# Altium footprint library 封装库.PcbLib: 324 footprints (part 1 of 21)
Each footprint in its own frame and in the unit in brackets; x right, y up, seen from the top. Pads: shape width x height; smd on the part's side, far side on the other; paste and mask are expansions set on the pad; w line width, h text height; cw(c..) or ccw(c..) is an arc to the next point about the centre after c.
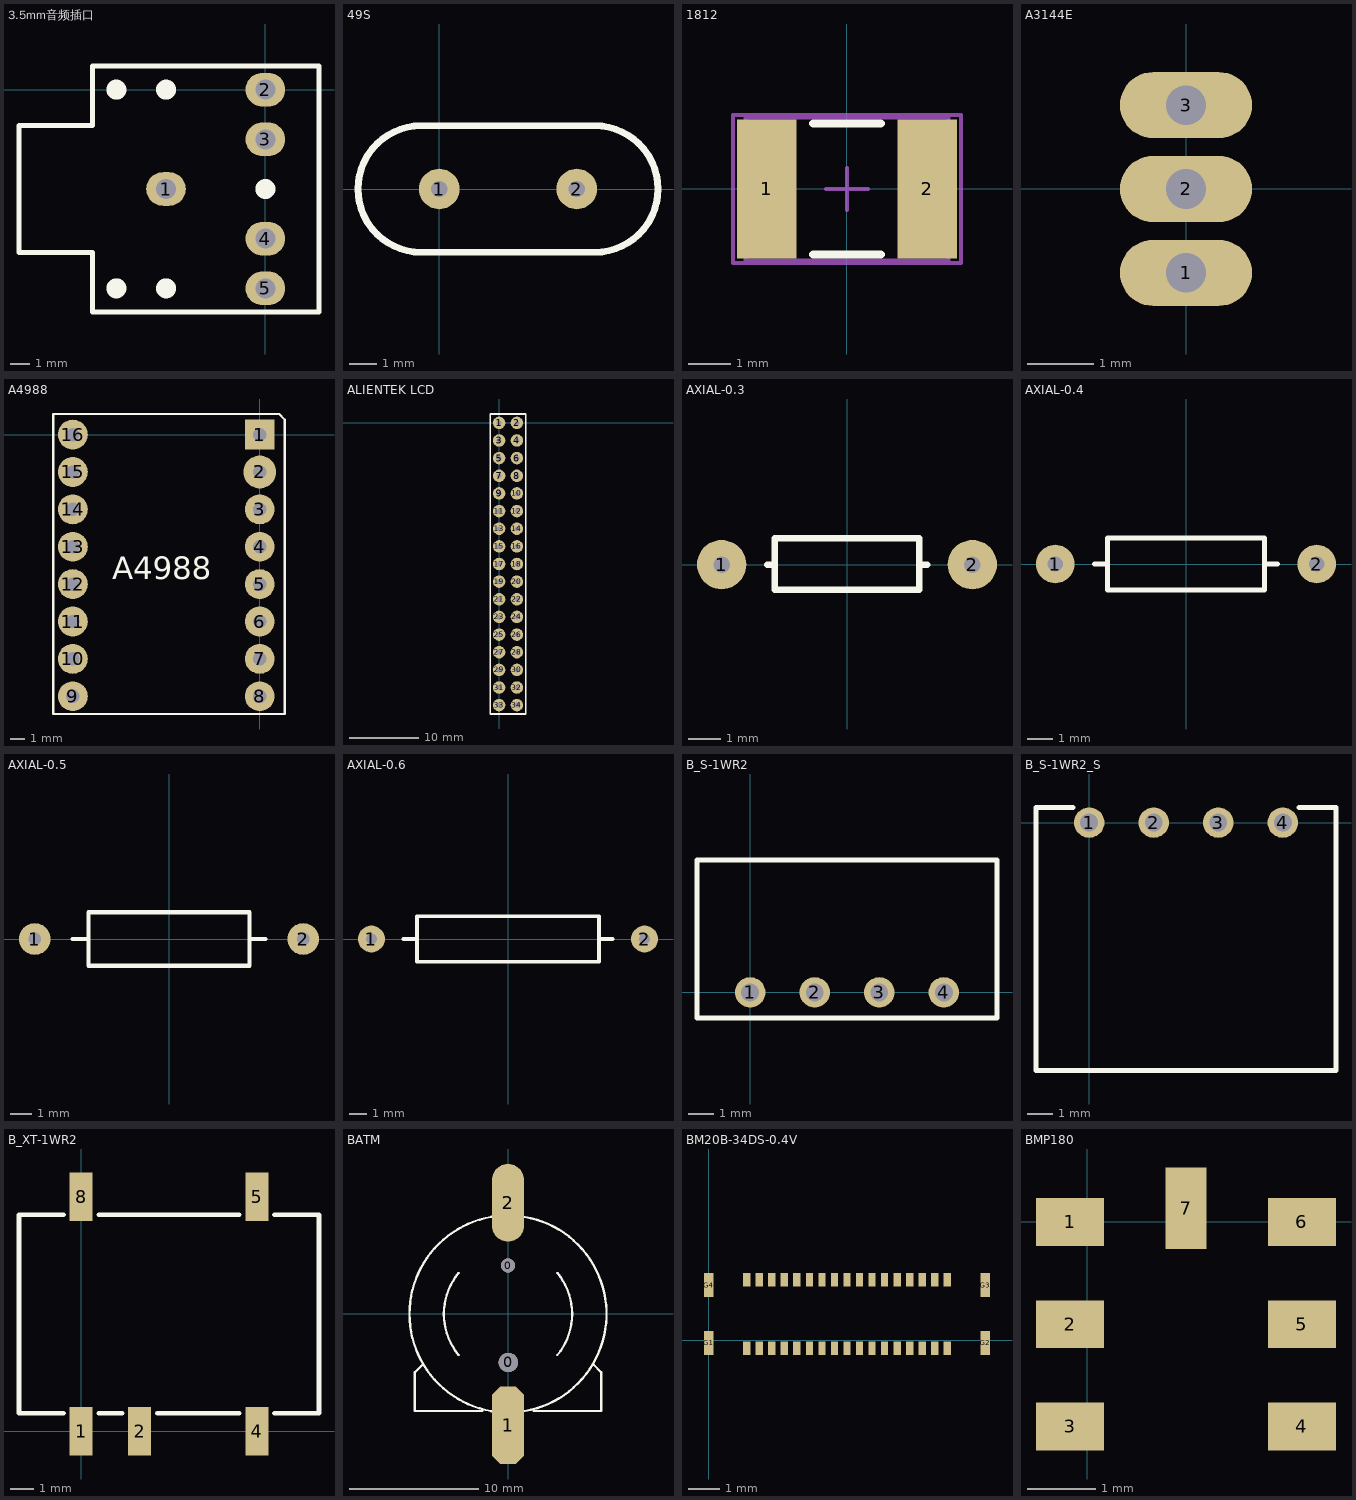
[diagram p0: the footprints below, top view; thin cyan lines are the x and y axes]

## 3.5mm音频插口 [mm]
pads (5):
  oval 2x1.7 hole 1: 1(-5,-5) 2(0,0) 3(0,-2.5) 4(0,-7.5) 5(0,-10)
Top Overlay:
  circle w0.8: c-5,-10 r0.1
  circle w0.8: c-7.5,-10 r0.1
  circle w0.8: c0,-5 r0.1
  circle w0.8: c-5,0 r0.1
  circle w0.8: c-7.5,0 r0.1
  lines w0.254: -12.4,-8.2 -8.7,-8.2 -8.7,-11.2 2.7,-11.2 2.7,1.2 -8.7,1.2 -8.7,-1.8 -12.4,-1.8 -12.4,-8.2

## 49S [mm]
pads (2):
  round 1.5 hole 0.6: 1(0,0) 2(5.08,0)
Top Overlay:
  lines w0.254: -0.663,-2.337 cw(c-0.663,0) -0.663,2.337 5.743,2.337 cw(c5.743,0) 5.743,-2.337 -0.663,-2.337

## 1812 [mm] "Chip Capacitor, Body 4.5x3.2mm, IPC High Density"
height 1.4
pads (2):
  rect 1.4x3.3 smd: 1(-1.9,0) 2(1.9,0)
Top Overlay:
  lines w0.2: -0.8,-1.55 0.8,-1.55 ; -0.8,1.55 0.8,1.55
Mechanical 13:
  lines w0.1: -2.4,-1.7 2.4,-1.7 2.4,1.7 -2.4,1.7 -2.4,-1.7
Mechanical 15:
  lines w0.1: -0.5,0 0.5,0 ; 0,-0.5 0,0.5 ; -2.7,-1.75 2.7,-1.75 2.7,1.75 -2.7,1.75 -2.7,-1.75
3D body: height 1.4, standoff 0, extent -2.4,-1.7 2.4,1.7

## A3144E [mm]
pads (3):
  oval 2x1 hole 0.6: 1(0,-1.27) 2(0,0) 3(0,1.27)

## A4988 [mm]
pads (16):
  rect 2x2 hole 0.9: 1(0,0)
  round 2.2 hole 0.9: 2(0,-2.5)
  round 2 hole 0.9: 3(0,-5) 4(0,-7.5) 5(0,-10) 6(0,-12.5) 7(0,-15) 8(0,-17.5) 9(-12.5,-17.5) 10(-12.5,-15) 11(-12.5,-12.5) 12(-12.5,-10) 13(-12.5,-7.5) 14(-12.5,-5) 15(-12.5,-2.5) 16(-12.5,0)
Top Overlay:
  lines w0.15: -13.814,-18.687 -13.814,1.379 1.299,1.379 1.68,0.998 1.68,-18.687 -13.433,-18.687 -13.814,-18.687
  text "A4988" at -9.877,-9.67 h1.52

## ALIENTEK LCD [mm]
pads (34):
  round 1.8 hole 0.7: 1(0,0) 2(2.54,0) 3(0,-2.54) 4(2.54,-2.54) 5(0,-5.08) 6(2.54,-5.08) 7(0,-7.62) 8(2.54,-7.62) 9(0,-10.16) 10(2.54,-10.16) 11(0,-12.7) 12(2.54,-12.7) 13(0,-15.24) 14(2.54,-15.24) 15(0,-17.78) 16(2.54,-17.78) 17(0,-20.32) 18(2.54,-20.32) 19(0,-22.86) 20(2.54,-22.86) 21(0,-25.4) 22(2.54,-25.4) 23(0,-27.94) 24(2.54,-27.94) 25(0,-30.48) 26(2.54,-30.48) 27(0,-33.02) 28(2.54,-33.02) 29(0,-35.56) 30(2.54,-35.56) 31(0,-38.1) 32(2.54,-38.1) 33(0,-40.64) 34(2.54,-40.64)
Top Overlay:
  lines w0.254: -1.27,-41.91 3.81,-41.91 3.81,1.27 -1.27,1.27 -1.27,-41.91

## AXIAL-0.3 [mm] "Axial Device, Thru-Hole; 2 Leads; 0.3 in Pin Spacing"
height 1.524
pads (2):
  round 1.5 hole 0.5: 1(-3.81,0) 2(3.81,0)
Top Overlay:
  lines w0.2: -2.429,0 -2.2,0 ; 2.203,0 2.431,0 ; -2.2,-0.762 -2.2,0.8 2.2,0.8 2.2,-0.762 -2.2,-0.762

## AXIAL-0.4 [mm] "Axial Device, Thru-Hole; 2 Leads; 0.4 in Pin Spacing"
height 2.032
pads (2):
  round 1.5 hole 0.6: 1(-5.08,0) 2(5.08,0)
Top Overlay:
  lines w0.2: -3.556,0 -3.048,0 ; 3.048,0 3.556,0 ; -3.048,-1.016 -3.048,1.016 3.048,1.016 3.048,-1.016 -3.048,-1.016

## AXIAL-0.5 [mm] "Axial Device, Thru-Hole; 2 Leads; 0.5 in Pin Spacing"
height 2.54
pads (2):
  round 1.5 hole 0.6: 1(-6.35,0) 2(6.35,0)
Top Overlay:
  lines w0.2: -4.572,0 -3.81,0 ; 3.81,0 4.572,0 ; -3.81,-1.27 -3.81,1.27 3.81,1.27 3.81,-1.27 -3.81,-1.27

## AXIAL-0.6 [mm] "Axial Device, Thru-Hole; 2 Leads; 0.6 in Pin Spacing"
height 2.54
pads (2):
  round 1.5 hole 0.6: 1(-7.62,0) 2(7.62,0)
Top Overlay:
  lines w0.2: -5.842,0 -5.08,0 ; 5.08,0 5.842,0 ; -5.08,-1.27 5.08,-1.27 5.08,1.27 -5.08,1.27 -5.08,-1.27

## B_S-1WR2 [mm]
height 10.16
pads (4):
  round 1.2 hole 0.7: 1(0,0) 2(2.54,0) 3(5.08,0) 4(7.62,0)
Top Overlay:
  lines w0.2: -2.09,-1 -2.09,5.2 9.71,5.2 9.71,-1 -2.09,-1

## B_S-1WR2_S [mm]
height 10.16
pads (4):
  round 1.2 hole 0.7: 1(0,0) 2(2.54,0) 3(5.08,0) 4(7.62,0)
Top Overlay:
  lines w0.2: -0.635,0.6 -2.09,0.6 -2.09,-9.76 9.71,-9.76 9.71,0.6 8.255,0.6

## B_XT-1WR2 [mm]
height 7.25
pads (5):
  rect 1x2.1 smd: 1(0,0) 2(2.54,0) 4(7.62,0) 5(7.62,10.16) 8(0,10.16)
Top Overlay:
  lines w0.2: -0.762,0.78 -2.69,0.78 -2.69,9.38 -0.762,9.38 ; 0.762,0.78 1.778,0.78 ; 0.762,9.38 6.858,9.38 ; 3.302,0.78 6.858,0.78 ; 8.382,0.78 10.31,0.78 10.31,9.38 8.382,9.38

## BATM [mm]
pads (4):
  round 1.1 hole 1.1 unplated: 0(0,3.748)
  round 1.5 hole 1.5 unplated: 0(0.025,-3.752)
  oct 2.5x6 smd: 1(0,-8.602)
  oval 2.5x6 smd: 2(0,8.598)
Top Overlay:
  lines w0.178: -6.6,-3.902 -7.2,-4.502 -7.2,-7.502 -2,-7.502 ; -3.815,-3.171 cw(c0,-0.002) -3.812,3.171 ; -0.833,-7.576 cw(c0,-0.002) -7.62,-0.002 cw(c0,-0.002) -0.833,7.573 ; 0.833,-7.576 ccw(c0,-0.002) 0.833,7.573 ; 2,-7.502 7.2,-7.502 7.2,-4.502 6.625,-3.927 ; 3.81,-3.177 ccw(c0,-0.002) 3.812,3.171

## BM20B-34DS-0.4V [mm] "广濑34P板对板连接器(插座)"
height 0.6
pads (38):
  rect 0.23x0.42 smd: 1(1.21,-0.255) 2(1.61,-0.255) 3(2.01,-0.255) 4(2.41,-0.255) 5(2.81,-0.255) 6(3.21,-0.255) 7(3.61,-0.255) 8(4.01,-0.255) 9(4.41,-0.255) 10(4.81,-0.255) 11(5.21,-0.255) 12(5.61,-0.255) 13(6.01,-0.255) 14(6.41,-0.255) 15(6.81,-0.255) 16(7.21,-0.255) 17(7.61,-0.255) 18(7.61,1.925) 19(7.21,1.925) 20(6.81,1.925) 21(6.41,1.925) 22(6.01,1.925) 23(5.61,1.925) 24(5.21,1.925) 25(4.81,1.925) 26(4.41,1.925) 27(4.01,1.925) 28(3.61,1.925) 29(3.21,1.925) 30(2.81,1.925) 31(2.41,1.925) 32(2.01,1.925) 33(1.61,1.925) 34(1.21,1.925)
  rect 0.3x0.75 smd: G1(0,-0.09) G2(8.82,-0.09) G3(8.82,1.76) G4(0,1.76)

## BMP180 [mm]
pads (7):
  rect 1x0.7 smd: 1(-0.25,0) 2(-0.25,-1.5) 3(-0.25,-3) 4(3.15,-3) 5(3.15,-1.5) 6(3.15,0)
  rect 0.6x1.2 smd: 7(1.45,0.2)